# EAGLE library part 74HC02N,652 (library NXP_By_element14_Batch_1)
Quad 2-input NOR gate
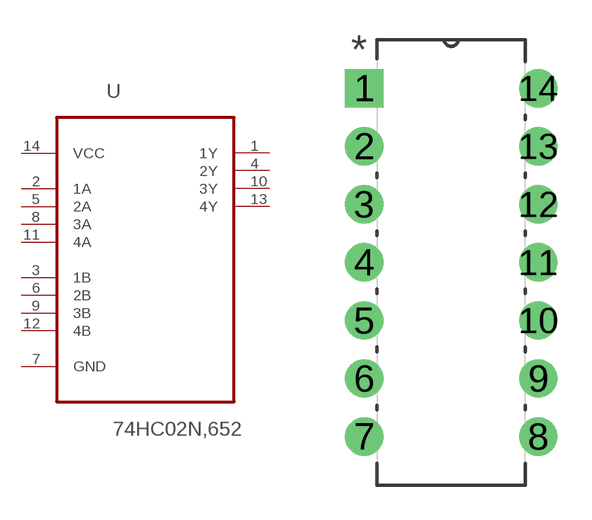
[diagram p12: symbol with the pads of DIP254P762X420-14; footprint DIP254P762X420-14]

Designator prefix U

## 74HC02N,652 (MPN: 74HC02N,652; OC_FARNELL: 1826772; OC_NEWARK: 71R1908; PACKAGE: DIP-14; SUPPLIER: NXP)  [DIP254P762X420-14]
1  1Y  out
2  1A  in
3  1B  in
4  2Y  out
5  2A  in
6  2B  in
7  GND  pas
8  3A  in
9  3B  in
10  3Y  out
11  4A  in
12  4B  in
13  4Y  out
14  VCC  pwr

## Footprint DIP254P762X420-14 (pad centres in mm)
drill 1.118 square: 1 -7.62,15.24
drill 1.118: 2 -7.62,12.7; 3 -7.62,10.16; 4 -7.62,7.62; 5 -7.62,5.08; 6 -7.62,2.54; 7 -7.62,0; 8 0,0; 9 0,2.54; 10 0,5.08; 11 0,7.62; 12 0,10.16; 13 0,12.7; 14 0,15.24